# Altium schematic symbol library TL1016AAF220QG.SchLib: 1 symbol
Pins are listed as number, name and electrical type; pins without a type are passive.

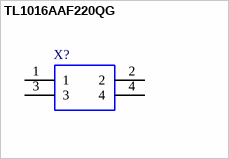
[diagram p0: symbol TL1016AAF220QG]

## TL1016AAF220QG
designator X?
Tactile Switches Tactile Switch SPST OFF-(ON) 50mA 12VDC; Manufacturer_Name: E-Switch; Geometry.Height: 1.35mm; Manufacturer_Part_Number: TL1016AAF220QG; Mouser Part Number: 612-TL1016AAF220QG; Mouser Price/Stock: https://www.mouser.co.uk/ProductDetail/E-Switch/TL1016AAF220QG?qs=t7xnP681wgW5zrSpkWH91Q%3D%3D; Arrow Part Number: *; Arrow Price/Stock: *; Mouser Testing Part Number: *; Mouser Testing Price/Stock: *; Datasheet Link: https://eu.mouser.com/datasheet/2/140/E_Switch_05112022_TL1016_Datasheet-2943618.pdf
footprint TL1016AAF220QG
pins: 1, 2, 3, 4